# Altium schematic symbol library polarityCAP.SchLib: 1 symbol
Pins are listed as number, name and electrical type; pins without a type are passive.

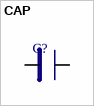
[diagram p0: symbol CAP]

## CAP
designator C?, comment P.CAP  (value not drawn)
Value: 10U
footprint polarityCAP
pins: 1, 2